# EAGLE library part 7414FK (library EW_IC_74_Logic)
digital one-bit-wide inverter. Category: Gates Manufacturer: Generic
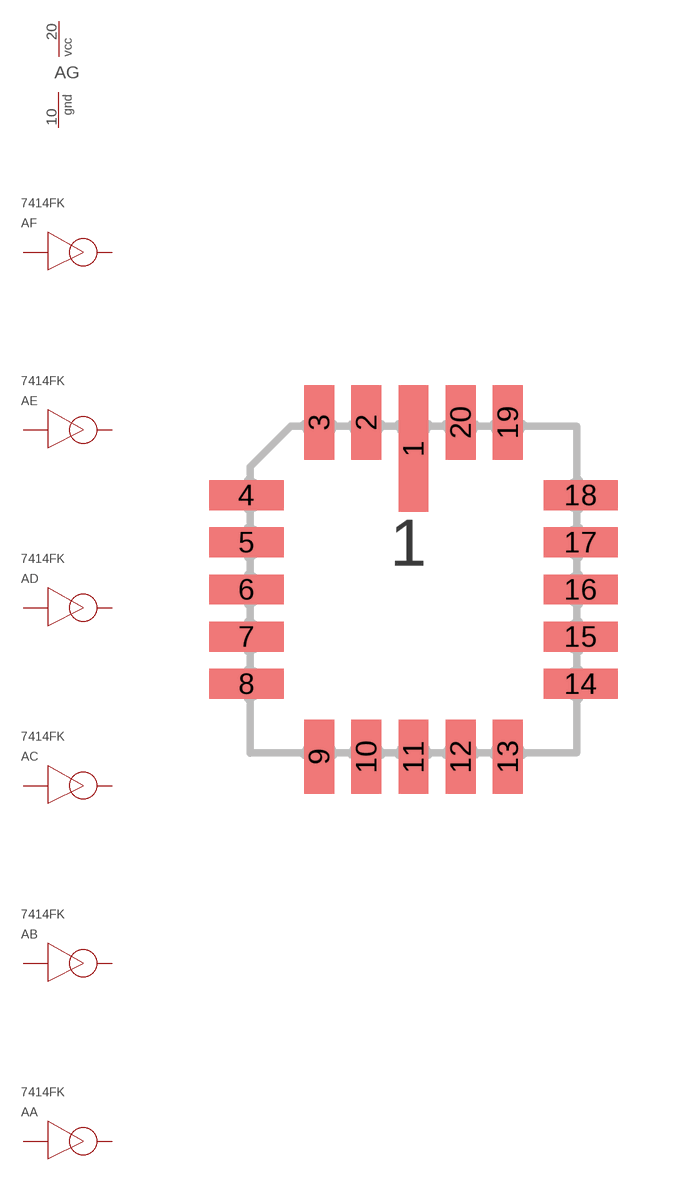
[diagram p391: symbol with the pads of LCC-20; footprint LCC-20]

Designator prefix A; gates A=INVERTER B=INVERTER C=INVERTER D=INVERTER E=INVERTER F=INVERTER G=PWRN

## 7414FK  [LCC-20]
2  A:IN  pwr
3  A:OUT  pwr
4  B:IN  pwr
6  B:OUT  pwr
8  C:IN  pwr
9  C:OUT  pwr
10  G:GND  pwr
12  D:OUT  pwr
13  D:IN  pwr
14  E:OUT  pwr
16  E:IN  pwr
18  F:OUT  pwr
19  F:IN  pwr
20  G:VCC  pwr

## Footprint LCC-20 (pad centres in mm)
LEADLESS CERAMIC CHIP CARRIER
smd 0.8 x 3.4: 1 0,3.8
smd 0.8 x 2: 2 -1.27,4.5; 3 -2.54,4.5; 9 -2.54,-4.5; 10 -1.27,-4.5; 11 0,-4.5; 12 1.27,-4.5; 13 2.54,-4.5; 19 2.54,4.5; 20 1.27,4.5
smd 2 x 0.8: 4 -4.5,2.54; 5 -4.5,1.27; 6 -4.5,0; 7 -4.5,-1.27; 8 -4.5,-2.54; 14 4.5,-2.54; 15 4.5,-1.27; 16 4.5,0; 17 4.5,1.27; 18 4.5,2.54